# EAGLE library part C64-EXPANSIONP (library TeensyROM)
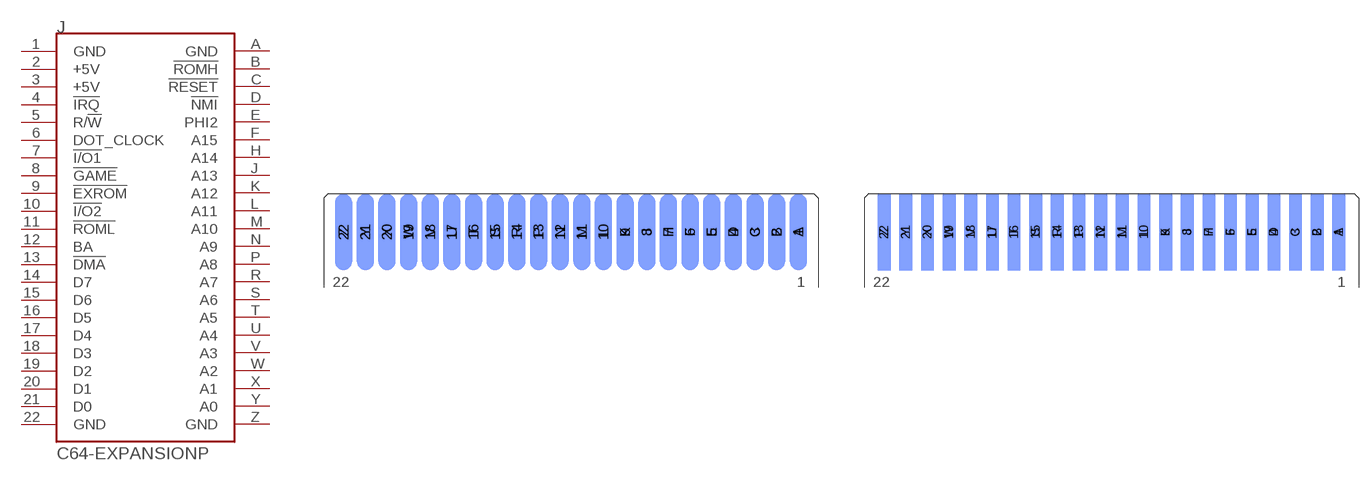
[diagram p2: symbol with the pads of EXPPORT; footprints EXPPORT, EXPANSIO_SQ]

Designator prefix J

## C64-EXPANSIONP  [EXPPORT]
1  GND  pwr
2  +5V  pwr
3  +5V  pwr
4  !IRQ  in
5  R/!W  out
6  DOT_CLOCK  out
7  !I/O1  out
8  !GAME  in
9  !EXROM  in
10  !I/O2  out
11  !ROML  out
12  BA  out
13  !DMA  in
14  D7
15  D6
16  D5
17  D4
18  D3
19  D2
20  D1
21  D0
22  GND  pwr
A  GND  pwr
B  !ROMH  out
C  !RESET  oc
D  !NMI  in
E  PHI2  out
F  A15
H  A14
J  A13
K  A12
L  A11
M  A10
N  A9
P  A8
R  A7
S  A6
T  A5
U  A4
V  A3
W  A2
X  A1
Y  A0
Z  GND  pwr

## C64-EXPANSIONPNARROW  [EXPANSIO_SQ]
Pads as for EXPPORT

## Footprint EXPPORT (pad centres in mm)
smd 2 x 9: 1 26.67,-4.5; 2 24.13,-4.5; 3 21.59,-4.5; 4 19.05,-4.5; 5 16.51,-4.5; 6 13.97,-4.5; 7 11.43,-4.5; 8 8.89,-4.5; 9 6.35,-4.5; 10 3.81,-4.5; 11 1.27,-4.5; 12 -1.27,-4.5; 13 -3.81,-4.5; 14 -6.35,-4.5; 15 -8.89,-4.5; 16 -11.43,-4.5; 17 -13.97,-4.5; 18 -16.51,-4.5; 19 -19.05,-4.5; 20 -21.59,-4.5; 21 -24.13,-4.5; 22 -26.67,-4.5
smd 2 x 9 bottom: A 26.67,-4.5; B 24.13,-4.5; C 21.59,-4.5; D 19.05,-4.5; E 16.51,-4.5; F 13.97,-4.5; H 11.43,-4.5; J 8.89,-4.5; K 6.35,-4.5; L 3.81,-4.5; M 1.27,-4.5; N -1.27,-4.5; P -3.81,-4.5; R -6.35,-4.5; S -8.89,-4.5; T -11.43,-4.5; U -13.97,-4.5; V -16.51,-4.5; W -19.05,-4.5; X -21.59,-4.5; Y -24.13,-4.5; Z -26.67,-4.5

## Footprint EXPANSIO_SQ (pad centres in mm)
smd 1.5 x 9: 1 26.67,-4.5; 2 24.13,-4.5; 3 21.59,-4.5; 4 19.05,-4.5; 5 16.51,-4.5; 6 13.97,-4.5; 7 11.43,-4.5; 8 8.89,-4.5; 9 6.35,-4.5; 10 3.81,-4.5; 11 1.27,-4.5; 12 -1.27,-4.5; 13 -3.81,-4.5; 14 -6.35,-4.5; 15 -8.89,-4.5; 16 -11.43,-4.5; 17 -13.97,-4.5; 18 -16.51,-4.5; 19 -19.05,-4.5; 20 -21.59,-4.5; 21 -24.13,-4.5; 22 -26.67,-4.5
smd 1.5 x 9 bottom: A 26.67,-4.5; B 24.13,-4.5; C 21.59,-4.5; D 19.05,-4.5; E 16.51,-4.5; F 13.97,-4.5; H 11.43,-4.5; J 8.89,-4.5; K 6.35,-4.5; L 3.81,-4.5; M 1.27,-4.5; N -1.27,-4.5; P -3.81,-4.5; R -6.35,-4.5; S -8.89,-4.5; T -11.43,-4.5; U -13.97,-4.5; V -16.51,-4.5; W -19.05,-4.5; X -21.59,-4.5; Y -24.13,-4.5; Z -26.67,-4.5